# Altium schematic symbol library SW-DPDT.Schlib: 1 symbol
Pins are listed as number, name and electrical type; pins without a type are passive.

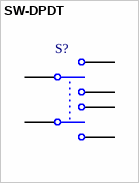
[diagram p0: symbol SW-DPDT]

## SW-DPDT
designator S?
Double-Pole, Double-Throw Switch
pins: 1, 2, 3, 4, 5, 6